# Altium integrated library Fairchild MOSFETs.IntLib: 1 symbol
Pins are listed as number, name and electrical type; pins without a type are passive.

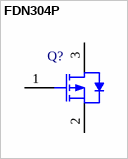
[diagram p0: symbol FDN304P]

## FDN304P
designator Q?
P-Channel 20V 2.4A (Ta) 500mW (Ta) Surface Mount SuperSOT-3; Manufacturer: Fairchild; PartNumber: FDN304P; Package: SuperSOT-3; PackageDescription: Super Small Outline Transistor 3 Leads; Supplier 1: Digi-Key; Supplier Part Number 1: FDN304PTR-ND
footprint SOT95P237X112-3L (SOT23, 3-Leads, Body 3.0x2.6mm (max), Pitch 0.95mm, IPC High Density)
footprint SOT95P237X112-3M (SOT23, 3-Leads, Body 3.0x2.6mm (max), Pitch 0.95mm, IPC Low Density)
footprint SOT95P237X112-3N (SOT23, 3-Leads, Body 3.0x2.6mm (max), Pitch 0.95mm, IPC Medium Density)
pins: 1 G "gate", 2 S "source", 3 D "drain"